# EAGLE library part HEADER-1X18-LCD (library teelsys-0.2)
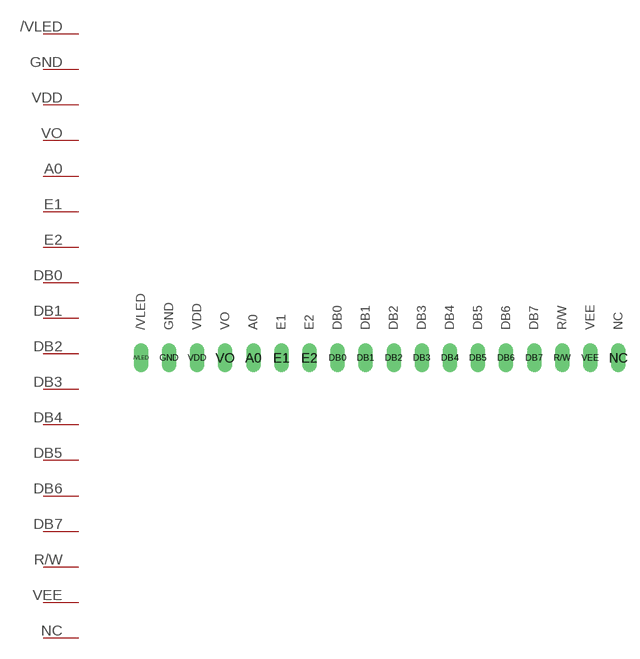
[diagram p17: symbol with the pads of HEADER-1X18-LCD; footprint HEADER-1X18-LCD]

Designator prefix -

## HEADER-1X18-LCD  [HEADER-1X18-LCD]
/VLED  /VLED
A0  A0
DB0  DB0
DB1  DB1
DB2  DB2
DB3  DB3
DB4  DB4
DB5  DB5
DB6  DB6
DB7  DB7
E1  E1
E2  E2
GND  GND
NC  NC
R/W  R/W
VDD  VDD
VEE  VEE
VO  VO

## Footprint HEADER-1X18-LCD (pad centres in mm)
drill 0.8 long: /VLED -21.59,0; A0 -11.43,0; DB0 -3.81,0; DB1 -1.27,0; DB2 1.27,0; DB3 3.81,0; DB4 6.35,0; DB5 8.89,0; DB6 11.43,0; DB7 13.97,0; E1 -8.89,0; E2 -6.35,0; GND -19.05,0; NC 21.59,0; R/W 16.51,0; VDD -16.51,0; VEE 19.05,0; VO -13.97,0